# Altium integrated library National Semiconductor Audio.IntLib: 683 symbols (part 14 of 18)
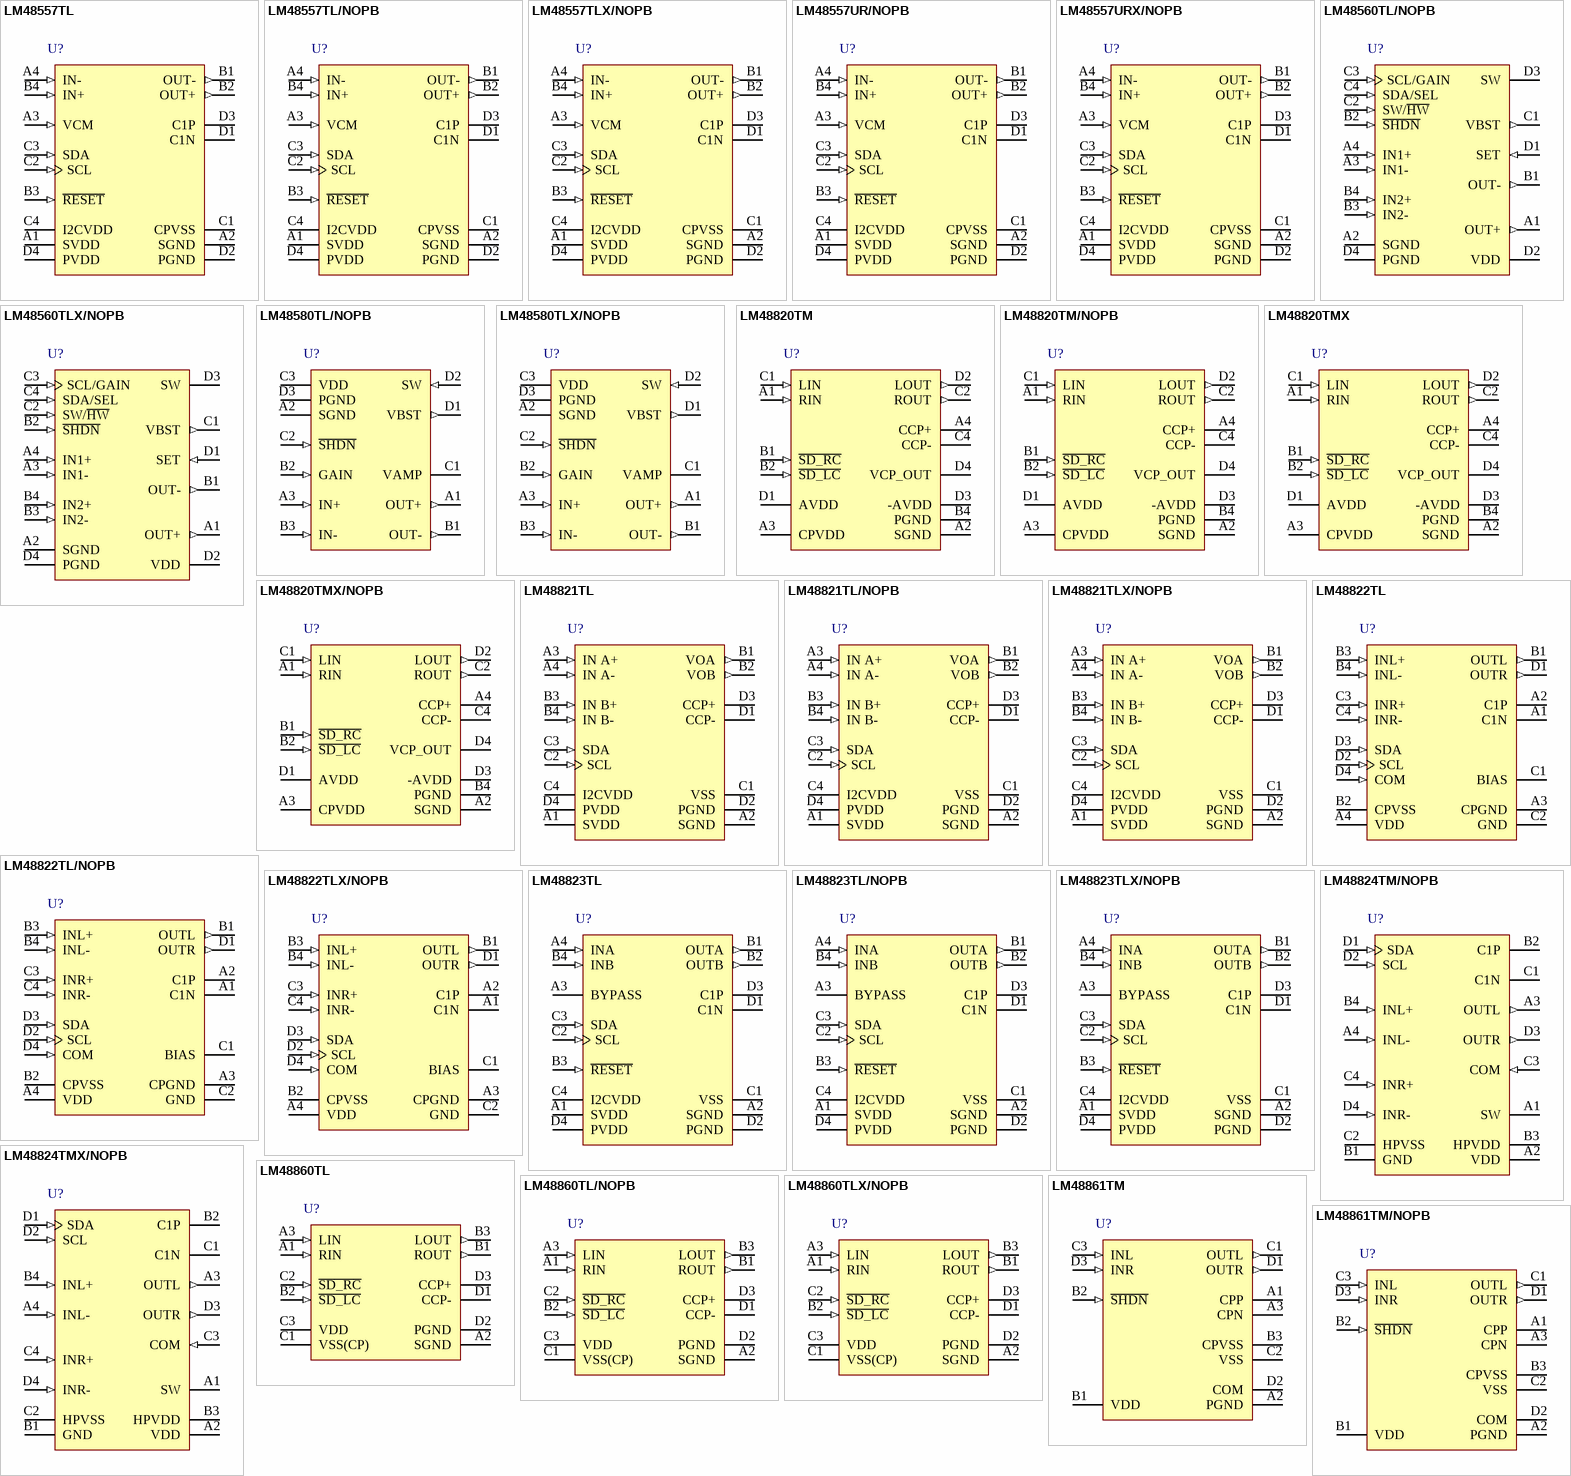
[diagram p39: symbols LM48557TL to LM48861TM/NOPB]

## LM48820TMX/NOPB
designator U?
Ground-Referenced, Ultra Low Noise, Fixed Gain, 95mW Stereo Headphone Amplifier, 14-pin Micro SMD, Pb-Free; PartNumber: LM48820TMX/NOPB; Manufacturer: National Semiconductor; PackageTopMarking: XYTT*I GI7; PowerWise: N; CompType: Audio IC; High-Reliability: Y; DatasheetVersion: Jun-2007; PackageVersion: revA, 2007; PackageReference: TME14AAA; PackageDescription: Thin Micro SMD, Depopulated, 14 Bump, 0.4mm Pitch; RoHS: Y; PinCount: 14; ComponentLink1Description: Manufacturer URL; ComponentLink1URL: http://www.national.com/; ComponentLink2Description: LM48820 Datasheet; ComponentLink2URL: http://www.national.com/ds/LM/LM48820.pdf; ComponentLink3Description: LM48820 Web Page; ComponentLink3URL: http://www.national.com/pf/LM/LM48820.html; ComponentLink4Description: TME14AAA Package Page; ComponentLink4URL: http://www.national.com/packaging/folders/tme14aaa.html
footprint TME14AAA (Micro SMD, 14-Leads, Body 1.62x1.62mm, Pitch 0.4mm, NSC Recommended)
pins: A1 RIN (in), A2 SGND (power), A3 CPVDD (power), A4 CCP+, B1 ~{SD_RC} (in), B2 ~{SD_LC} (in), B4 PGND (power), C1 LIN (in), C2 ROUT (out), C4 CCP-, D1 AVDD (power), D2 LOUT (out), D3 -AVDD (power), D4 VCP_OUT (power)

## LM48821TL
designator U?
Direct Coupled, Ultra Low Noise, 52mW Differential Input Stereo Headphone Amplifier with I2C Volume Control, 16-pin Micro SMD; PartNumber: LM48821TL; Manufacturer: National Semiconductor; PackageTopMarking: XYTT*I G16; PowerWise: N; CompType: Audio IC; High-Reliability: Y; DatasheetVersion: Jun-2007; PackageVersion: revC, Jan-2004; PackageReference: TLA1611A; PackageDescription: Thin Micro SMD, 16 Bump (Large), 0.5mm Pitch; RoHS: Y; PinCount: 16; Code_JEDEC: MO-211-DF; ComponentLink1Description: Manufacturer URL; ComponentLink1URL: http://www.national.com/; ComponentLink2Description: LM48821 Datasheet; ComponentLink2URL: http://www.national.com/ds/LM/LM48821.pdf; ComponentLink3Description: LM48821 Web Page; ComponentLink3URL: http://www.national.com/pf/LM/LM48821.html; ComponentLink4Description: TLA1611A Package Page; ComponentLink4URL: http://www.national.com/packaging/folders/tla1611a.html
footprint TLA1611A (Micro SMD, 16-Leads, Body 1.97x1.97mm, Pitch 0.5mm, NSC Recommended)
pins: A1 SVDD (power), A2 SGND (power), A3 IN A+ (in), A4 IN A- (in), B1 VOA (out), B2 VOB (out), B3 IN B+ (in), B4 IN B- (in), C1 VSS (power), C2 SCL (in), C3 SDA (in), C4 I2CVDD (power), D1 CCP-, D2 PGND (power), D3 CCP+, D4 PVDD (power)

## LM48821TL/NOPB
designator U?
Direct Coupled, Ultra Low Noise, 52mW Differential Input Stereo Headphone Amplifier with I2C Volume Control, 16-pin Micro SMD, Pb-Free; PartNumber: LM48821TL/NOPB; Manufacturer: National Semiconductor; PackageTopMarking: XYTT*I G16; PowerWise: N; CompType: Audio IC; High-Reliability: Y; DatasheetVersion: Jun-2007; PackageVersion: revC, Jan-2004; PackageReference: TLA1611A; PackageDescription: Thin Micro SMD, 16 Bump (Large), 0.5mm Pitch; RoHS: Y; PinCount: 16; Code_JEDEC: MO-211-DF; ComponentLink1Description: Manufacturer URL; ComponentLink1URL: http://www.national.com/; ComponentLink2Description: LM48821 Datasheet; ComponentLink2URL: http://www.national.com/ds/LM/LM48821.pdf; ComponentLink3Description: LM48821 Web Page; ComponentLink3URL: http://www.national.com/pf/LM/LM48821.html; ComponentLink4Description: TLA1611A Package Page; ComponentLink4URL: http://www.national.com/packaging/folders/tla1611a.html
footprint TLA1611A (Micro SMD, 16-Leads, Body 1.97x1.97mm, Pitch 0.5mm, NSC Recommended)
pins: A1 SVDD (power), A2 SGND (power), A3 IN A+ (in), A4 IN A- (in), B1 VOA (out), B2 VOB (out), B3 IN B+ (in), B4 IN B- (in), C1 VSS (power), C2 SCL (in), C3 SDA (in), C4 I2CVDD (power), D1 CCP-, D2 PGND (power), D3 CCP+, D4 PVDD (power)

## LM48821TLX/NOPB
designator U?
Direct Coupled, Ultra Low Noise, 52mW Differential Input Stereo Headphone Amplifier with I2C Volume Control, 16-pin Micro SMD, Pb-Free; PartNumber: LM48821TLX/NOPB; Manufacturer: National Semiconductor; PackageTopMarking: XYTT*I G16; PowerWise: N; CompType: Audio IC; High-Reliability: Y; DatasheetVersion: Jun-2007; PackageVersion: revC, Jan-2004; PackageReference: TLA1611A; PackageDescription: Thin Micro SMD, 16 Bump (Large), 0.5mm Pitch; RoHS: Y; PinCount: 16; Code_JEDEC: MO-211-DF; ComponentLink1Description: Manufacturer URL; ComponentLink1URL: http://www.national.com/; ComponentLink2Description: LM48821 Datasheet; ComponentLink2URL: http://www.national.com/ds/LM/LM48821.pdf; ComponentLink3Description: LM48821 Web Page; ComponentLink3URL: http://www.national.com/pf/LM/LM48821.html; ComponentLink4Description: TLA1611A Package Page; ComponentLink4URL: http://www.national.com/packaging/folders/tla1611a.html
footprint TLA1611A (Micro SMD, 16-Leads, Body 1.97x1.97mm, Pitch 0.5mm, NSC Recommended)
pins: A1 SVDD (power), A2 SGND (power), A3 IN A+ (in), A4 IN A- (in), B1 VOA (out), B2 VOB (out), B3 IN B+ (in), B4 IN B- (in), C1 VSS (power), C2 SCL (in), C3 SDA (in), C4 I2CVDD (power), D1 CCP-, D2 PGND (power), D3 CCP+, D4 PVDD (power)

## LM48822TL
designator U?
Ground-Referenced, Ultra-High PSRR, Ultra Low Noise, 35mW/Channel Stereo Headphone AMplifier with Common Mode Sense, and I2C Volume Control, 16-pin Micro SMD; PartNumber: LM48822TL; Manufacturer: National Semiconductor; PackageTopMarking: XYTT*I GK1; PowerWise: N; CompType: Audio IC; High-Reliability: Y; DatasheetVersion: Jul-2008; PackageVersion: revC, Jan-2004; PackageReference: TLA1611A; PackageDescription: Thin Micro SMD, 16 Bump (Large), 0.5mm Pitch; RoHS: Y; PinCount: 16; Code_JEDEC: MO-211-DF; ComponentLink1Description: Manufacturer URL; ComponentLink1URL: http://www.national.com/; ComponentLink2Description: LM48822 Datasheet; ComponentLink2URL: http://www.national.com/ds/LM/LM48822.pdf; ComponentLink3Description: LM48822 Web Page; ComponentLink3URL: http://www.national.com/pf/LM/LM48822.html; ComponentLink4Description: TLA1611A Package Page; ComponentLink4URL: http://www.national.com/packaging/folders/tla1611a.html
footprint TLA1611A (Micro SMD, 16-Leads, Body 1.97x1.97mm, Pitch 0.5mm, NSC Recommended)
pins: A1 C1N, A2 C1P, A3 CPGND (power), A4 VDD (power), B1 OUTL (out), B2 CPVSS (power), B3 INL+ (in), B4 INL- (in), C1 BIAS (power), C2 GND (power), C3 INR+ (in), C4 INR- (in), D1 OUTR (out), D2 SCL (in), D3 SDA (in), D4 COM (in)

## LM48822TL/NOPB
designator U?
Ground-Referenced, Ultra-High PSRR, Ultra Low Noise, 35mW/Channel Stereo Headphone AMplifier with Common Mode Sense, and I2C Volume Control, 16-pin Micro SMD, Pb-Free; PartNumber: LM48822TL/NOPB; Manufacturer: National Semiconductor; PackageTopMarking: XYTT*I GK1; PowerWise: N; CompType: Audio IC; High-Reliability: Y; DatasheetVersion: Jul-2008; PackageVersion: revC, Jan-2004; PackageReference: TLA1611A; PackageDescription: Thin Micro SMD, 16 Bump (Large), 0.5mm Pitch; RoHS: Y; PinCount: 16; Code_JEDEC: MO-211-DF; ComponentLink1Description: Manufacturer URL; ComponentLink1URL: http://www.national.com/; ComponentLink2Description: LM48822 Datasheet; ComponentLink2URL: http://www.national.com/ds/LM/LM48822.pdf; ComponentLink3Description: LM48822 Web Page; ComponentLink3URL: http://www.national.com/pf/LM/LM48822.html; ComponentLink4Description: TLA1611A Package Page; ComponentLink4URL: http://www.national.com/packaging/folders/tla1611a.html
footprint TLA1611A (Micro SMD, 16-Leads, Body 1.97x1.97mm, Pitch 0.5mm, NSC Recommended)
pins: A1 C1N, A2 C1P, A3 CPGND (power), A4 VDD (power), B1 OUTL (out), B2 CPVSS (power), B3 INL+ (in), B4 INL- (in), C1 BIAS (power), C2 GND (power), C3 INR+ (in), C4 INR- (in), D1 OUTR (out), D2 SCL (in), D3 SDA (in), D4 COM (in)

## LM48822TLX/NOPB
designator U?
Ground-Referenced, Ultra-High PSRR, Ultra Low Noise, 35mW/Channel Stereo Headphone AMplifier with Common Mode Sense, and I2C Volume Control, 16-pin Micro SMD, Pb-Free; PartNumber: LM48822TLX/NOPB; Manufacturer: National Semiconductor; PackageTopMarking: XYTT*I GK1; PowerWise: N; CompType: Audio IC; High-Reliability: Y; DatasheetVersion: Jul-2008; PackageVersion: revC, Jan-2004; PackageReference: TLA1611A; PackageDescription: Thin Micro SMD, 16 Bump (Large), 0.5mm Pitch; RoHS: Y; PinCount: 16; Code_JEDEC: MO-211-DF; ComponentLink1Description: Manufacturer URL; ComponentLink1URL: http://www.national.com/; ComponentLink2Description: LM48822 Datasheet; ComponentLink2URL: http://www.national.com/ds/LM/LM48822.pdf; ComponentLink3Description: LM48822 Web Page; ComponentLink3URL: http://www.national.com/pf/LM/LM48822.html; ComponentLink4Description: TLA1611A Package Page; ComponentLink4URL: http://www.national.com/packaging/folders/tla1611a.html
footprint TLA1611A (Micro SMD, 16-Leads, Body 1.97x1.97mm, Pitch 0.5mm, NSC Recommended)
pins: A1 C1N, A2 C1P, A3 CPGND (power), A4 VDD (power), B1 OUTL (out), B2 CPVSS (power), B3 INL+ (in), B4 INL- (in), C1 BIAS (power), C2 GND (power), C3 INR+ (in), C4 INR- (in), D1 OUTR (out), D2 SCL (in), D3 SDA (in), D4 COM (in)

## LM48823TL
designator U?
Mono, Bridge-Tied Load, Ceramic Speaker Driver with I2C Volume Control and Reset, 16-pin Micro SMD; PartNumber: LM48823TL; Manufacturer: National Semiconductor; PackageTopMarking: XYTT*I GK6; PowerWise: N; CompType: Audio IC; High-Reliability: Y; DatasheetVersion: Jul-2008; PackageVersion: revC, Jan-2004; PackageReference: TLA1611A; PackageDescription: Thin Micro SMD, 16 Bump (Large), 0.5mm Pitch; RoHS: N; PinCount: 16; Code_JEDEC: MO-211-DF; ComponentLink1Description: Manufacturer URL; ComponentLink1URL: http://www.national.com/; ComponentLink2Description: LM48823 Datasheet; ComponentLink2URL: http://www.national.com/ds/LM/LM48823.pdf; ComponentLink3Description: LM48823 Web Page; ComponentLink3URL: http://www.national.com/pf/LM/LM48823.html; ComponentLink4Description: TLA1611A Package Page; ComponentLink4URL: http://www.national.com/packaging/folders/tla1611a.html
footprint TLA1611A (Micro SMD, 16-Leads, Body 1.97x1.97mm, Pitch 0.5mm, NSC Recommended)
pins: A1 SVDD (power), A2 SGND (power), A3 BYPASS, A4 INA (in), B1 OUTA (out), B2 OUTB (out), B3 ~{RESET} (in), B4 INB (in), C1 VSS (power), C2 SCL (in), C3 SDA (in), C4 I2CVDD (power), D1 C1N, D2 PGND (power), D3 C1P, D4 PVDD (power)

## LM48823TL/NOPB
designator U?
Mono, Bridge-Tied Load, Ceramic Speaker Driver with I2C Volume Control and Reset, 16-pin Micro SMD, Pb-Free; PartNumber: LM48823TL/NOPB; Manufacturer: National Semiconductor; PackageTopMarking: XYTT*I GK6; PowerWise: N; CompType: Audio IC; High-Reliability: Y; DatasheetVersion: Jul-2008; PackageVersion: revC, Jan-2004; PackageReference: TLA1611A; PackageDescription: Thin Micro SMD, 16 Bump (Large), 0.5mm Pitch; RoHS: Y; PinCount: 16; Code_JEDEC: MO-211-DF; ComponentLink1Description: Manufacturer URL; ComponentLink1URL: http://www.national.com/; ComponentLink2Description: LM48823 Datasheet; ComponentLink2URL: http://www.national.com/ds/LM/LM48823.pdf; ComponentLink3Description: LM48823 Web Page; ComponentLink3URL: http://www.national.com/pf/LM/LM48823.html; ComponentLink4Description: TLA1611A Package Page; ComponentLink4URL: http://www.national.com/packaging/folders/tla1611a.html
footprint TLA1611A (Micro SMD, 16-Leads, Body 1.97x1.97mm, Pitch 0.5mm, NSC Recommended)
pins: A1 SVDD (power), A2 SGND (power), A3 BYPASS, A4 INA (in), B1 OUTA (out), B2 OUTB (out), B3 ~{RESET} (in), B4 INB (in), C1 VSS (power), C2 SCL (in), C3 SDA (in), C4 I2CVDD (power), D1 C1N, D2 PGND (power), D3 C1P, D4 PVDD (power)

## LM48823TLX/NOPB
designator U?
Mono, Bridge-Tied Load, Ceramic Speaker Driver with I2C Volume Control and Reset, 16-pin Micro SMD, Pb-Free; PartNumber: LM48823TLX/NOPB; Manufacturer: National Semiconductor; PackageTopMarking: XYTT*I GK6; PowerWise: N; CompType: Audio IC; High-Reliability: Y; DatasheetVersion: Jul-2008; PackageVersion: revC, Jan-2004; PackageReference: TLA1611A; PackageDescription: Thin Micro SMD, 16 Bump (Large), 0.5mm Pitch; RoHS: Y; PinCount: 16; Code_JEDEC: MO-211-DF; ComponentLink1Description: Manufacturer URL; ComponentLink1URL: http://www.national.com/; ComponentLink2Description: LM48823 Datasheet; ComponentLink2URL: http://www.national.com/ds/LM/LM48823.pdf; ComponentLink3Description: LM48823 Web Page; ComponentLink3URL: http://www.national.com/pf/LM/LM48823.html; ComponentLink4Description: TLA1611A Package Page; ComponentLink4URL: http://www.national.com/packaging/folders/tla1611a.html
footprint TLA1611A (Micro SMD, 16-Leads, Body 1.97x1.97mm, Pitch 0.5mm, NSC Recommended)
pins: A1 SVDD (power), A2 SGND (power), A3 BYPASS, A4 INA (in), B1 OUTA (out), B2 OUTB (out), B3 ~{RESET} (in), B4 INB (in), C1 VSS (power), C2 SCL (in), C3 SDA (in), C4 I2CVDD (power), D1 C1N, D2 PGND (power), D3 C1P, D4 PVDD (power)

## LM48824TM/NOPB
designator U?
Class G Headphone Amplifier with I2C Volume Control, 16-pin Micro SMD, Pb-Free; PartNumber: LM48824TM/NOPB; Manufacturer: National Semiconductor; PackageTopMarking: XYTT*I GL6; PowerWise: N; CompType: Audio IC; High-Reliability: Y; DatasheetVersion: Aug-2009; PackageVersion: revA, 2009; PackageReference: TMD16DDA; PackageDescription: Thin Micro SMD, 16 Bump, 0.4mm Pitch; RoHS: Y; PinCount: 16; ComponentLink1Description: Manufacturer URL; ComponentLink1URL: http://www.national.com/; ComponentLink2Description: LM48824 Datasheet; ComponentLink2URL: http://www.national.com/ds/LM/LM48824.pdf; ComponentLink3Description: LM48824 Web Page; ComponentLink3URL: http://www.national.com/pf/LM/LM48824.html; ComponentLink4Description: TMD16DDA Package Page; ComponentLink4URL: http://www.national.com/packaging/folders/tmd16dda.html
footprint TMD16DDA (Micro SMD, 16-Leads, Body 1.7x1.7mm, Pitch 0.4mm, NSC Recommended)
pins: A1 SW, A2 VDD (power), A3 OUTL (out), A4 INL- (in), B1 GND (power), B2 C1P, B3 HPVDD (power), B4 INL+ (in), C1 C1N, C2 HPVSS, C3 COM (in), C4 INR+ (in), D1 SDA (in), D2 SCL (in), D3 OUTR (out), D4 INR- (in)

## LM48824TMX/NOPB
designator U?
Class G Headphone Amplifier with I2C Volume Control, 16-pin Micro SMD, Pb-Free; PartNumber: LM48824TMX/NOPB; Manufacturer: National Semiconductor; PackageTopMarking: XYTT*I GL6; PowerWise: N; CompType: Audio IC; High-Reliability: Y; DatasheetVersion: Aug-2009; PackageVersion: revA, 2009; PackageReference: TMD16DDA; PackageDescription: Thin Micro SMD, 16 Bump, 0.4mm Pitch; RoHS: Y; PinCount: 16; ComponentLink1Description: Manufacturer URL; ComponentLink1URL: http://www.national.com/; ComponentLink2Description: LM48824 Datasheet; ComponentLink2URL: http://www.national.com/ds/LM/LM48824.pdf; ComponentLink3Description: LM48824 Web Page; ComponentLink3URL: http://www.national.com/pf/LM/LM48824.html; ComponentLink4Description: TMD16DDA Package Page; ComponentLink4URL: http://www.national.com/packaging/folders/tmd16dda.html
footprint TMD16DDA (Micro SMD, 16-Leads, Body 1.7x1.7mm, Pitch 0.4mm, NSC Recommended)
pins: A1 SW, A2 VDD (power), A3 OUTL (out), A4 INL- (in), B1 GND (power), B2 C1P, B3 HPVDD (power), B4 INL+ (in), C1 C1N, C2 HPVSS, C3 COM (in), C4 INR+ (in), D1 SDA (in), D2 SCL (in), D3 OUTR (out), D4 INR- (in)

## LM48860TL
designator U?
Ground-Referenced, Ultra Low Noise, Fixed Gain Stereo Headphone Amplifier, 12-pin Micro SMD; PartNumber: LM48860TL; Manufacturer: National Semiconductor; PackageTopMarking: XYTT*I GJ7; PowerWise: N; CompType: Audio IC; High-Reliability: Y; DatasheetVersion: Oct-2008; PackageVersion: revC, Jan-2004; PackageReference: TLA12Z1A; PackageDescription: Thin Micro SMD, 12 Bump (Large), Area Array, 0.5mm Pitch; RoHS: Y; PinCount: 12; Code_JEDEC: MO-211-DE; ComponentLink1Description: Manufacturer URL; ComponentLink1URL: http://www.national.com/; ComponentLink2Description: LM48860 Datasheet; ComponentLink2URL: http://www.national.com/ds/LM/LM48860.pdf; ComponentLink3Description: LM48860 Web Page; ComponentLink3URL: http://www.national.com/pf/LM/LM48860.html; ComponentLink4Description: TLA12Z1A Package Page; ComponentLink4URL: http://www.national.com/packaging/folders/tla12z1a.html
footprint TLA12Z1A (Micro SMD, 12-Leads, Body 1.97x1.47mm, Pitch 0.5mm, NSC Recommended)
pins: A1 RIN (in), A2 SGND (power), A3 LIN (in), B1 ROUT (out), B2 ~{SD_LC} (in), B3 LOUT (out), C1 VSS(CP) (power), C2 ~{SD_RC} (in), C3 VDD (power), D1 CCP-, D2 PGND (power), D3 CCP+

## LM48860TL/NOPB
designator U?
Ground-Referenced, Ultra Low Noise, Fixed Gain Stereo Headphone Amplifier, 12-pin Micro SMD, Pb-Free; PartNumber: LM48860TL/NOPB; Manufacturer: National Semiconductor; PackageTopMarking: XYTT*I GJ7; PowerWise: N; CompType: Audio IC; High-Reliability: Y; DatasheetVersion: Oct-2008; PackageVersion: revC, Jan-2004; PackageReference: TLA12Z1A; PackageDescription: Thin Micro SMD, 12 Bump (Large), Area Array, 0.5mm Pitch; RoHS: Y; PinCount: 12; Code_JEDEC: MO-211-DE; ComponentLink1Description: Manufacturer URL; ComponentLink1URL: http://www.national.com/; ComponentLink2Description: LM48860 Datasheet; ComponentLink2URL: http://www.national.com/ds/LM/LM48860.pdf; ComponentLink3Description: LM48860 Web Page; ComponentLink3URL: http://www.national.com/pf/LM/LM48860.html; ComponentLink4Description: TLA12Z1A Package Page; ComponentLink4URL: http://www.national.com/packaging/folders/tla12z1a.html
footprint TLA12Z1A (Micro SMD, 12-Leads, Body 1.97x1.47mm, Pitch 0.5mm, NSC Recommended)
pins: A1 RIN (in), A2 SGND (power), A3 LIN (in), B1 ROUT (out), B2 ~{SD_LC} (in), B3 LOUT (out), C1 VSS(CP) (power), C2 ~{SD_RC} (in), C3 VDD (power), D1 CCP-, D2 PGND (power), D3 CCP+

## LM48860TLX/NOPB
designator U?
Ground-Referenced, Ultra Low Noise, Fixed Gain Stereo Headphone Amplifier, 12-pin Micro SMD, Pb-Free; PartNumber: LM48860TLX/NOPB; Manufacturer: National Semiconductor; PackageTopMarking: XYTT*I GJ7; PowerWise: N; CompType: Audio IC; High-Reliability: Y; DatasheetVersion: Oct-2008; PackageVersion: revC, Jan-2004; PackageReference: TLA12Z1A; PackageDescription: Thin Micro SMD, 12 Bump (Large), Area Array, 0.5mm Pitch; RoHS: Y; PinCount: 12; Code_JEDEC: MO-211-DE; ComponentLink1Description: Manufacturer URL; ComponentLink1URL: http://www.national.com/; ComponentLink2Description: LM48860 Datasheet; ComponentLink2URL: http://www.national.com/ds/LM/LM48860.pdf; ComponentLink3Description: LM48860 Web Page; ComponentLink3URL: http://www.national.com/pf/LM/LM48860.html; ComponentLink4Description: TLA12Z1A Package Page; ComponentLink4URL: http://www.national.com/packaging/folders/tla12z1a.html
footprint TLA12Z1A (Micro SMD, 12-Leads, Body 1.97x1.47mm, Pitch 0.5mm, NSC Recommended)
pins: A1 RIN (in), A2 SGND (power), A3 LIN (in), B1 ROUT (out), B2 ~{SD_LC} (in), B3 LOUT (out), C1 VSS(CP) (power), C2 ~{SD_RC} (in), C3 VDD (power), D1 CCP-, D2 PGND (power), D3 CCP+

## LM48861TM
designator U?
PowerWise Ground-Referenced, Ultra Low Noise, Stereo Headphone Amplifier, 12-pin Micro SMD; PartNumber: LM48861TM; Manufacturer: National Semiconductor; PackageTopMarking: XVG*I K3; PowerWise: Y; CompType: Audio IC; DatasheetVersion: Jun-2008; PackageVersion: revA, 2008; PackageReference: TMD12AAA; PackageDescription: Thin Micro SMD, 12 Bump, 0.4mm Pitch; RoHS: Y; PinCount: 12; High-Reliability: Y; ComponentLink1Description: Manufacturer URL; ComponentLink1URL: http://www.national.com/; ComponentLink2Description: LM48861 Datasheet; ComponentLink2URL: http://www.national.com/ds/LM/LM48861.pdf; ComponentLink3Description: LM48861 Web Page; ComponentLink3URL: http://www.national.com/pf/LM/LM48861.html
footprint TMD12AAA (Micro SMD, 12-Leads, Body 1.62x1.22mm, Pitch 0.4mm, NSC Recommended)
pins: A1 CPP, A2 PGND (power), A3 CPN, B1 VDD (power), B2 ~{SHDN} (in), B3 CPVSS (power), C1 OUTL (out), C2 VSS (power), C3 INL (in), D1 OUTR (out), D2 COM (power), D3 INR (in)

## LM48861TM/NOPB
designator U?
PowerWise Ground-Referenced, Ultra Low Noise, Stereo Headphone Amplifier, 12-pin Micro SMD, Pb-Free; PartNumber: LM48861TM/NOPB; Manufacturer: National Semiconductor; PackageTopMarking: XVG*I K3; PowerWise: Y; CompType: Audio IC; DatasheetVersion: Jun-2008; PackageVersion: revA, 2008; PackageReference: TMD12AAA; PackageDescription: Thin Micro SMD, 12 Bump, 0.4mm Pitch; RoHS: Y; PinCount: 12; High-Reliability: Y; ComponentLink1Description: Manufacturer URL; ComponentLink1URL: http://www.national.com/; ComponentLink2Description: LM48861 Datasheet; ComponentLink2URL: http://www.national.com/ds/LM/LM48861.pdf; ComponentLink3Description: LM48861 Web Page; ComponentLink3URL: http://www.national.com/pf/LM/LM48861.html; ComponentLink4Description: TMD12AAA Package Page; ComponentLink4URL: http://www.national.com/packaging/folders/tmd12aaa.html
footprint TMD12AAA (Micro SMD, 12-Leads, Body 1.62x1.22mm, Pitch 0.4mm, NSC Recommended)
pins: A1 CPP, A2 PGND (power), A3 CPN, B1 VDD (power), B2 ~{SHDN} (in), B3 CPVSS (power), C1 OUTL (out), C2 VSS (power), C3 INL (in), D1 OUTR (out), D2 COM (power), D3 INR (in)

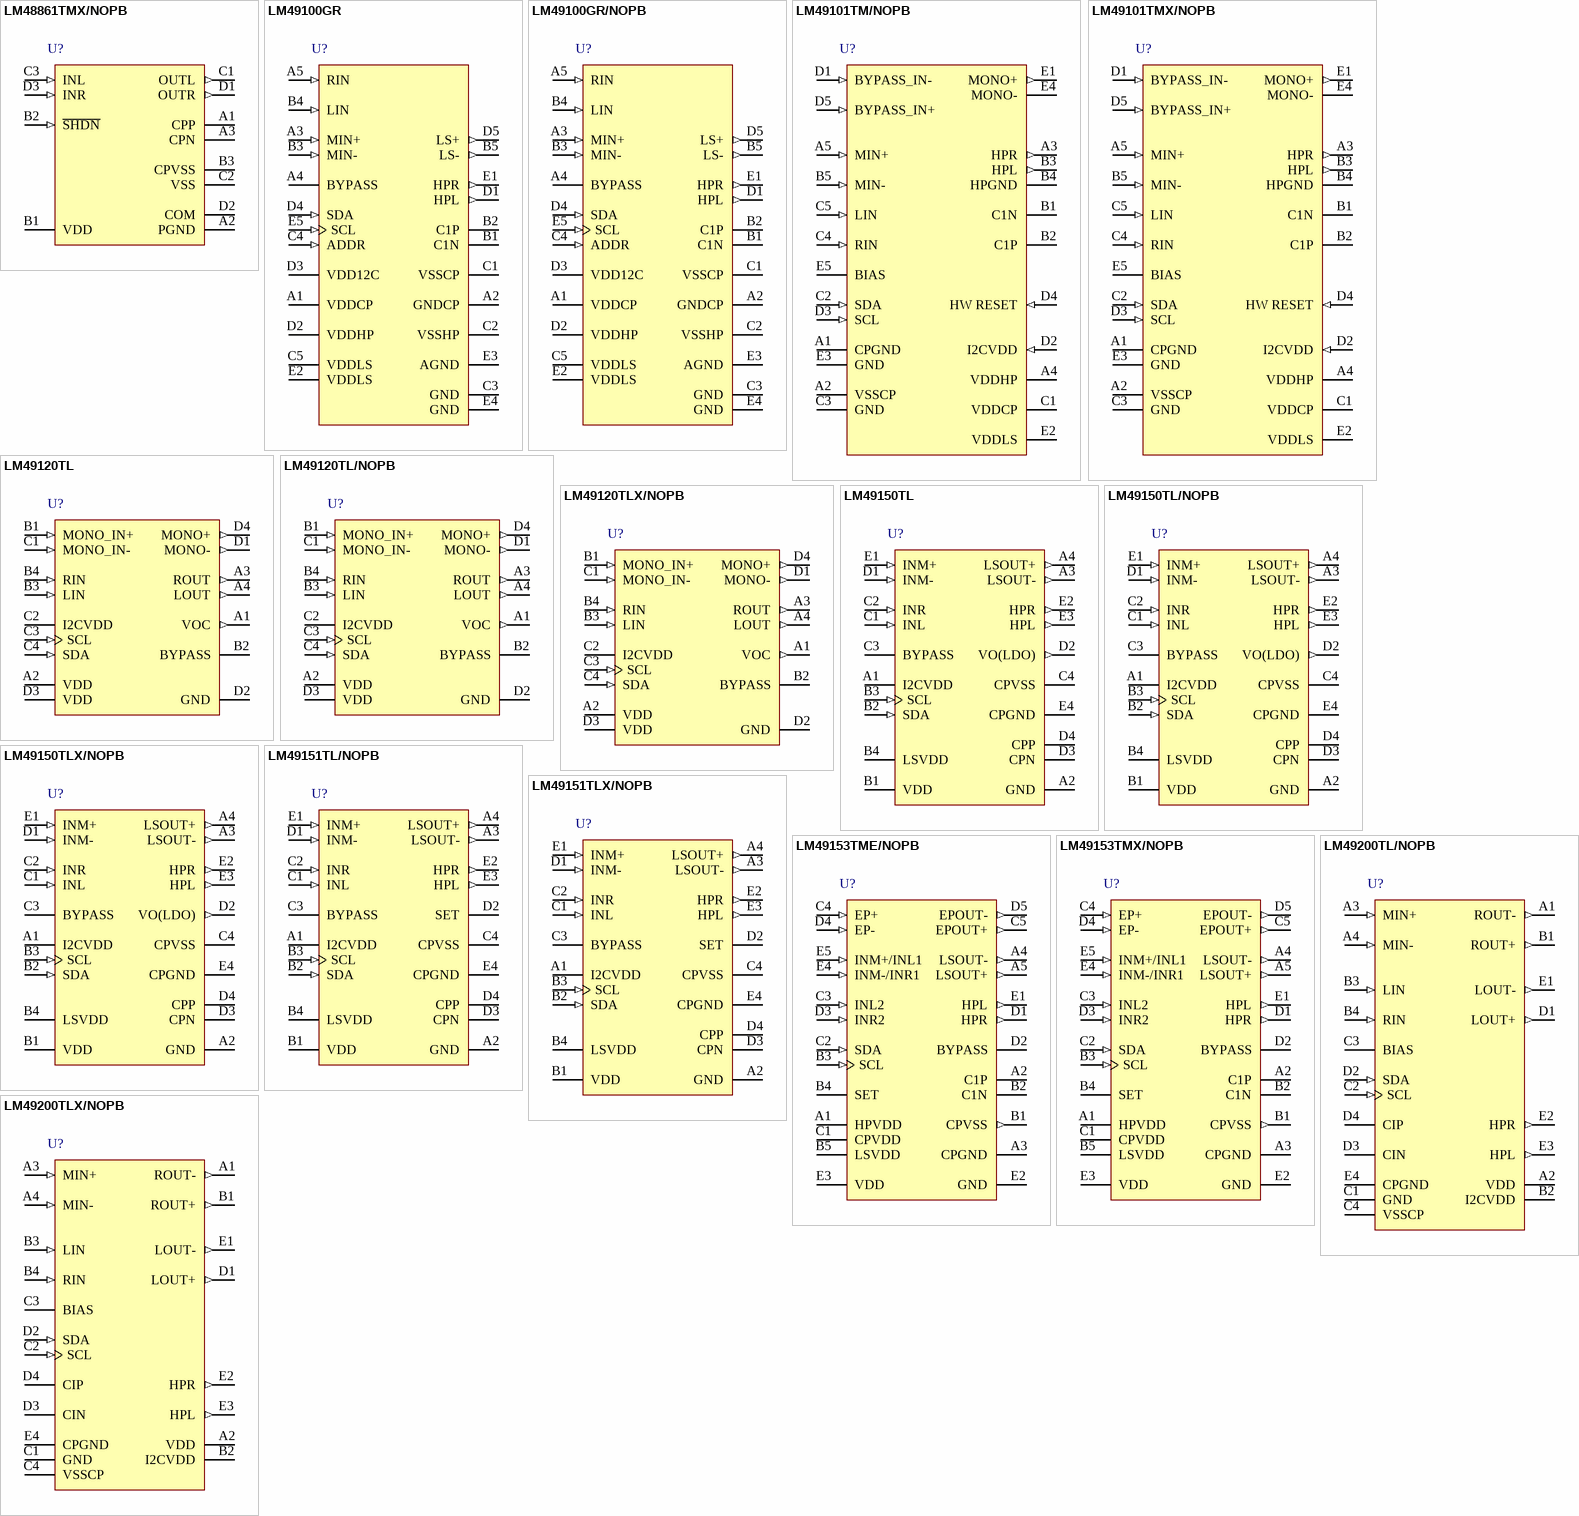
[diagram p20: symbols LM48861TMX/NOPB to LM49200TLX/NOPB]

## LM48861TMX/NOPB
designator U?
PowerWise Ground-Referenced, Ultra Low Noise, Stereo Headphone Amplifier, 12-pin Micro SMD, Pb-Free; PartNumber: LM48861TMX/NOPB; Manufacturer: National Semiconductor; PackageTopMarking: XVG*I K3; PowerWise: Y; CompType: Audio IC; DatasheetVersion: Jun-2008; PackageVersion: revA, 2008; PackageReference: TMD12AAA; PackageDescription: Thin Micro SMD, 12 Bump, 0.4mm Pitch; RoHS: Y; PinCount: 12; High-Reliability: Y; ComponentLink1Description: Manufacturer URL; ComponentLink1URL: http://www.national.com/; ComponentLink2Description: LM48861 Datasheet; ComponentLink2URL: http://www.national.com/ds/LM/LM48861.pdf; ComponentLink3Description: LM48861 Web Page; ComponentLink3URL: http://www.national.com/pf/LM/LM48861.html; ComponentLink4Description: TMD12AAA Package Page; ComponentLink4URL: http://www.national.com/packaging/folders/tmd12aaa.html
footprint TMD12AAA (Micro SMD, 12-Leads, Body 1.62x1.22mm, Pitch 0.4mm, NSC Recommended)
pins: A1 CPP, A2 PGND (power), A3 CPN, B1 VDD (power), B2 ~{SHDN} (in), B3 CPVSS (power), C1 OUTL (out), C2 VSS (power), C3 INL (in), D1 OUTR (out), D2 COM (power), D3 INR (in)

## LM49100GR
designator U?
Mono Class AB Audio Sub-System with a True-Ground Headphone Amplifier, 25-pin Micro-Array; PartNumber: LM49100GR; Manufacturer: National Semiconductor; PackageTopMarking: XYTT*GC9; PowerWise: N; CompType: Audio IC; High-Reliability: Y; DatasheetVersion: Sep-2007; PackageVersion: revA, Mar-2004; PackageReference: GRA25A; PackageDescription: Micro-Array, 3x3x1mm Body, 25 Ball, 0.5mm Pitch; RoHS: Y; PinCount: 25; ComponentLink1Description: Manufacturer URL; ComponentLink1URL: http://www.national.com/; ComponentLink2Description: LM49100 Datasheet; ComponentLink2URL: http://www.national.com/ds/LM/LM49100.pdf; ComponentLink3Description: LM49100 Web Page; ComponentLink3URL: http://www.national.com/pf/LM/LM49100.html; ComponentLink4Description: GRA25A Package Page; ComponentLink4URL: http://www.national.com/packaging/folders/gra25a.html
footprint GRA25A (BGA, 25-Leads, Body 3x3mm, Pitch 0.5mm, NSC Recommended)
pins: A1 VDDCP (power), A2 GNDCP (power), A3 MIN+ (in), A4 BYPASS, A5 RIN (in), B1 C1N, B2 C1P, B3 MIN- (in), B4 LIN (in), B5 LS- (out), C1 VSSCP (power), C2 VSSHP (power), C3 GND (power), C4 ADDR (in), C5 VDDLS (power), D1 HPL (out), D2 VDDHP (power), D3 VDD12C (power), D4 SDA (in), D5 LS+ (out), E1 HPR (out), E2 VDDLS (power), E3 AGND (power), E4 GND (power), E5 SCL (in)

## LM49100GR/NOPB
designator U?
Mono Class AB Audio Sub-System with a True-Ground Headphone Amplifier, 25-pin Micro-Array, Pb-Free; PartNumber: LM49100GR/NOPB; Manufacturer: National Semiconductor; PackageTopMarking: XYTT*GC9; PowerWise: N; CompType: Audio IC; High-Reliability: Y; DatasheetVersion: Sep-2007; PackageVersion: revA, Mar-2004; PackageReference: GRA25A; PackageDescription: Micro-Array, 3x3x1mm Body, 25 Ball, 0.5mm Pitch; RoHS: Y; PinCount: 25; ComponentLink1Description: Manufacturer URL; ComponentLink1URL: http://www.national.com/; ComponentLink2Description: LM49100 Datasheet; ComponentLink2URL: http://www.national.com/ds/LM/LM49100.pdf; ComponentLink3Description: LM49100 Web Page; ComponentLink3URL: http://www.national.com/pf/LM/LM49100.html; ComponentLink4Description: GRA25A Package Page; ComponentLink4URL: http://www.national.com/packaging/folders/gra25a.html
footprint GRA25A (BGA, 25-Leads, Body 3x3mm, Pitch 0.5mm, NSC Recommended)
pins: A1 VDDCP (power), A2 GNDCP (power), A3 MIN+ (in), A4 BYPASS, A5 RIN (in), B1 C1N, B2 C1P, B3 MIN- (in), B4 LIN (in), B5 LS- (out), C1 VSSCP (power), C2 VSSHP (power), C3 GND (power), C4 ADDR (in), C5 VDDLS (power), D1 HPL (out), D2 VDDHP (power), D3 VDD12C (power), D4 SDA (in), D5 LS+ (out), E1 HPR (out), E2 VDDLS (power), E3 AGND (power), E4 GND (power), E5 SCL (in)

## LM49101TM/NOPB
designator U?
Mono Class AB Audio Subsystem with a True Ground Headphone Amplifier and Earpiece Switch, 25-pin Micro SMD, Pb-Free; PartNumber: LM49101TM/NOPB; Manufacturer: National Semiconductor; PackageTopMarking: XYTT*I GL4; PowerWise: Y; CompType: Audio IC; DatasheetVersion: Mar-2009; PackageVersion: revC, 2009; PackageReference: TMD25BCA; PackageDescription: Thin Micro SMD, 25 Bump, 0.4mm Pitch; RoHS: Y; PinCount: 25; High-Reliability: Y; ComponentLink1Description: Manufacturer URL; ComponentLink1URL: http://www.national.com/; ComponentLink2Description: LM49101 Datasheet; ComponentLink2URL: http://www.national.com/ds/LM/LM49101.pdf; ComponentLink3Description: LM49101 Web Page; ComponentLink3URL: http://www.national.com/pf/LM/LM49101.html; ComponentLink4Description: TMD25BCA Package Page; ComponentLink4URL: http://www.national.com/packaging/folders/tmd25bca.html
footprint TMD25BCA (Micro SMD, 25-Leads, Body 2.07x2.04mm, Pitch 0.4mm, NSC Recommended)
pins: A1 CPGND (power), A2 VSSCP (power), A3 HPR (out), A4 VDDHP (power), A5 MIN+ (in), B1 C1N, B2 C1P, B3 HPL (out), B4 HPGND (power), B5 MIN- (in), C1 VDDCP (power), C2 SDA (in), C3 GND (power), C4 RIN (in), C5 LIN (in), D1 BYPASS_IN- (in), D2 I2CVDD (in), D3 SCL (in), D4 HW RESET (in), D5 BYPASS_IN+ (in), E1 MONO+ (out), E2 VDDLS (power), E3 GND (power), E4 MONO-, E5 BIAS

## LM49101TMX/NOPB
designator U?
Mono Class AB Audio Subsystem with a True Ground Headphone Amplifier and Earpiece Switch, 25-pin Micro SMD, Pb-Free; PartNumber: LM49101TMX/NOPB; Manufacturer: National Semiconductor; PackageTopMarking: XYTT*I GL4; PowerWise: Y; CompType: Audio IC; DatasheetVersion: Mar-2009; PackageVersion: revC, 2009; PackageReference: TMD25BCA; PackageDescription: Thin Micro SMD, 25 Bump, 0.4mm Pitch; RoHS: Y; PinCount: 25; High-Reliability: Y; ComponentLink1Description: Manufacturer URL; ComponentLink1URL: http://www.national.com/; ComponentLink2Description: LM49101 Datasheet; ComponentLink2URL: http://www.national.com/ds/LM/LM49101.pdf; ComponentLink3Description: LM49101 Web Page; ComponentLink3URL: http://www.national.com/pf/LM/LM49101.html; ComponentLink4Description: TMD25BCA Package Page; ComponentLink4URL: http://www.national.com/packaging/folders/tmd25bca.html
footprint TMD25BCA (Micro SMD, 25-Leads, Body 2.07x2.04mm, Pitch 0.4mm, NSC Recommended)
pins: A1 CPGND (power), A2 VSSCP (power), A3 HPR (out), A4 VDDHP (power), A5 MIN+ (in), B1 C1N, B2 C1P, B3 HPL (out), B4 HPGND (power), B5 MIN- (in), C1 VDDCP (power), C2 SDA (in), C3 GND (power), C4 RIN (in), C5 LIN (in), D1 BYPASS_IN- (in), D2 I2CVDD (in), D3 SCL (in), D4 HW RESET (in), D5 BYPASS_IN+ (in), E1 MONO+ (out), E2 VDDLS (power), E3 GND (power), E4 MONO-, E5 BIAS

## LM49120TL
designator U?
Audio Sub-System with Mono Class AB Loudspeaker Amplifier and Stereo OCL/SE Headphone Amplifier, 16-pin Micro SMD; PartNumber: LM49120TL; Manufacturer: National Semiconductor; PackageTopMarking: XYTT*I GK2; PowerWise: N; CompType: Audio IC; High-Reliability: Y; DatasheetVersion: Jul-2008; PackageVersion: revC, Jan-2004; PackageReference: TLA1611A; PackageDescription: Thin Micro SMD, 16 Bump (Large), 0.5mm Pitch; RoHS: Y; PinCount: 16; Code_JEDEC: MO-211-DF; ComponentLink1Description: Manufacturer URL; ComponentLink1URL: http://www.national.com/; ComponentLink2Description: LM49120 Datasheet; ComponentLink2URL: http://www.national.com/ds/LM/LM49120.pdf; ComponentLink3Description: LM49120 Web Page; ComponentLink3URL: http://www.national.com/pf/LM/LM49120.html; ComponentLink4Description: TLA1611A Package Page; ComponentLink4URL: http://www.national.com/packaging/folders/tla1611a.html
footprint TLA1611A (Micro SMD, 16-Leads, Body 1.97x1.97mm, Pitch 0.5mm, NSC Recommended)
pins: A1 VOC (out), A2 VDD (power), A3 ROUT (out), A4 LOUT (out), B1 MONO_IN+ (in), B2 BYPASS, B3 LIN (in), B4 RIN (in), C1 MONO_IN- (in), C2 I2CVDD (power), C3 SCL (in), C4 SDA (in), D1 MONO- (out), D2 GND (power), D3 VDD (power), D4 MONO+ (out)

## LM49120TL/NOPB
designator U?
Audio Sub-System with Mono Class AB Loudspeaker Amplifier and Stereo OCL/SE Headphone Amplifier, 16-pin Micro SMD, Pb-Free; PartNumber: LM49120TL/NOPB; Manufacturer: National Semiconductor; PackageTopMarking: XYTT*I GK2; PowerWise: N; CompType: Audio IC; High-Reliability: Y; DatasheetVersion: Jul-2008; PackageVersion: revC, Jan-2004; PackageReference: TLA1611A; PackageDescription: Thin Micro SMD, 16 Bump (Large), 0.5mm Pitch; RoHS: Y; PinCount: 16; Code_JEDEC: MO-211-DF; ComponentLink1Description: Manufacturer URL; ComponentLink1URL: http://www.national.com/; ComponentLink2Description: LM49120 Datasheet; ComponentLink2URL: http://www.national.com/ds/LM/LM49120.pdf; ComponentLink3Description: LM49120 Web Page; ComponentLink3URL: http://www.national.com/pf/LM/LM49120.html; ComponentLink4Description: TLA1611A Package Page; ComponentLink4URL: http://www.national.com/packaging/folders/tla1611a.html
footprint TLA1611A (Micro SMD, 16-Leads, Body 1.97x1.97mm, Pitch 0.5mm, NSC Recommended)
pins: A1 VOC (out), A2 VDD (power), A3 ROUT (out), A4 LOUT (out), B1 MONO_IN+ (in), B2 BYPASS, B3 LIN (in), B4 RIN (in), C1 MONO_IN- (in), C2 I2CVDD (power), C3 SCL (in), C4 SDA (in), D1 MONO- (out), D2 GND (power), D3 VDD (power), D4 MONO+ (out)

## LM49120TLX/NOPB
designator U?
Audio Sub-System with Mono Class AB Loudspeaker Amplifier and Stereo OCL/SE Headphone Amplifier, 16-pin Micro SMD, Pb-Free; PartNumber: LM49120TLX/NOPB; Manufacturer: National Semiconductor; PackageTopMarking: XYTT*I GK2; PowerWise: N; CompType: Audio IC; High-Reliability: Y; DatasheetVersion: Jul-2008; PackageVersion: revC, Jan-2004; PackageReference: TLA1611A; PackageDescription: Thin Micro SMD, 16 Bump (Large), 0.5mm Pitch; RoHS: Y; PinCount: 16; Code_JEDEC: MO-211-DF; ComponentLink1Description: Manufacturer URL; ComponentLink1URL: http://www.national.com/; ComponentLink2Description: LM49120 Datasheet; ComponentLink2URL: http://www.national.com/ds/LM/LM49120.pdf; ComponentLink3Description: LM49120 Web Page; ComponentLink3URL: http://www.national.com/pf/LM/LM49120.html; ComponentLink4Description: TLA1611A Package Page; ComponentLink4URL: http://www.national.com/packaging/folders/tla1611a.html
footprint TLA1611A (Micro SMD, 16-Leads, Body 1.97x1.97mm, Pitch 0.5mm, NSC Recommended)
pins: A1 VOC (out), A2 VDD (power), A3 ROUT (out), A4 LOUT (out), B1 MONO_IN+ (in), B2 BYPASS, B3 LIN (in), B4 RIN (in), C1 MONO_IN- (in), C2 I2CVDD (power), C3 SCL (in), C4 SDA (in), D1 MONO- (out), D2 GND (power), D3 VDD (power), D4 MONO+ (out)

## LM49150TL
designator U?
Mono Class D Audio Subsystem with Earpiece Driver and Stereo Ground Referenced Headphone Amplifiers, 20-pin Micro SMD; PartNumber: LM49150TL; Manufacturer: National Semiconductor; PackageTopMarking: XYTT*I GK7; PowerWise: N; CompType: Audio IC; High-Reliability: Y; DatasheetVersion: Mar-2009; PackageVersion: revC, Jan-2004; PackageReference: TLA20KGA; PackageDescription: Thin Micro SMD, 20 Bump (Large), 0.5mm Pitch; RoHS: Y; PinCount: 20; Code_JEDEC: MO-211-DG; ComponentLink1Description: Manufacturer URL; ComponentLink1URL: http://www.national.com/; ComponentLink2Description: LM49150 Datasheet; ComponentLink2URL: http://www.national.com/ds/LM/LM49150.pdf; ComponentLink3Description: LM49150 Web Page; ComponentLink3URL: http://www.national.com/pf/LM/LM49150.html; ComponentLink4Description: TLA20KGA Package Page; ComponentLink4URL: http://www.national.com/packaging/folders/tla20kga.html
footprint TLA20KGA (Micro SMD, 20-Leads, Body 2.64x2.23mm, Pitch 0.5mm, NSC Recommended)
pins: A1 I2CVDD (power), A2 GND (power), A3 LSOUT- (out), A4 LSOUT+ (out), B1 VDD (power), B2 SDA (in), B3 SCL (in), B4 LSVDD (power), C1 INL (in), C2 INR (in), C3 BYPASS, C4 CPVSS (power), D1 INM- (in), D2 VO(LDO) (out), D3 CPN, D4 CPP, E1 INM+ (in), E2 HPR (out), E3 HPL (out), E4 CPGND (power)

## LM49150TL/NOPB
designator U?
Mono Class D Audio Subsystem with Earpiece Driver and Stereo Ground Referenced Headphone Amplifiers, 20-pin Micro SMD, Pb-Free; PartNumber: LM49150TL/NOPB; Manufacturer: National Semiconductor; PackageTopMarking: XYTT*I GK7; PowerWise: N; CompType: Audio IC; High-Reliability: Y; DatasheetVersion: Mar-2009; PackageVersion: revC, Jan-2004; PackageReference: TLA20KGA; PackageDescription: Thin Micro SMD, 20 Bump (Large), 0.5mm Pitch; RoHS: Y; PinCount: 20; Code_JEDEC: MO-211-DG; ComponentLink1Description: Manufacturer URL; ComponentLink1URL: http://www.national.com/; ComponentLink2Description: LM49150 Datasheet; ComponentLink2URL: http://www.national.com/ds/LM/LM49150.pdf; ComponentLink3Description: LM49150 Web Page; ComponentLink3URL: http://www.national.com/pf/LM/LM49150.html; ComponentLink4Description: TLA20KGA Package Page; ComponentLink4URL: http://www.national.com/packaging/folders/tla20kga.html
footprint TLA20KGA (Micro SMD, 20-Leads, Body 2.64x2.23mm, Pitch 0.5mm, NSC Recommended)
pins: A1 I2CVDD (power), A2 GND (power), A3 LSOUT- (out), A4 LSOUT+ (out), B1 VDD (power), B2 SDA (in), B3 SCL (in), B4 LSVDD (power), C1 INL (in), C2 INR (in), C3 BYPASS, C4 CPVSS (power), D1 INM- (in), D2 VO(LDO) (out), D3 CPN, D4 CPP, E1 INM+ (in), E2 HPR (out), E3 HPL (out), E4 CPGND (power)

## LM49150TLX/NOPB
designator U?
Mono Class D Audio Subsystem with Earpiece Driver and Stereo Ground Referenced Headphone Amplifiers, 20-pin Micro SMD, Pb-Free; PartNumber: LM49150TLX/NOPB; Manufacturer: National Semiconductor; PackageTopMarking: XYTT*I GK7; PowerWise: N; CompType: Audio IC; High-Reliability: Y; DatasheetVersion: Mar-2009; PackageVersion: revC, Jan-2004; PackageReference: TLA20KGA; PackageDescription: Thin Micro SMD, 20 Bump (Large), 0.5mm Pitch; RoHS: Y; PinCount: 20; Code_JEDEC: MO-211-DG; ComponentLink1Description: Manufacturer URL; ComponentLink1URL: http://www.national.com/; ComponentLink2Description: LM49150 Datasheet; ComponentLink2URL: http://www.national.com/ds/LM/LM49150.pdf; ComponentLink3Description: LM49150 Web Page; ComponentLink3URL: http://www.national.com/pf/LM/LM49150.html; ComponentLink4Description: TLA20KGA Package Page; ComponentLink4URL: http://www.national.com/packaging/folders/tla20kga.html
footprint TLA20KGA (Micro SMD, 20-Leads, Body 2.64x2.23mm, Pitch 0.5mm, NSC Recommended)
pins: A1 I2CVDD (power), A2 GND (power), A3 LSOUT- (out), A4 LSOUT+ (out), B1 VDD (power), B2 SDA (in), B3 SCL (in), B4 LSVDD (power), C1 INL (in), C2 INR (in), C3 BYPASS, C4 CPVSS (power), D1 INM- (in), D2 VO(LDO) (out), D3 CPN, D4 CPP, E1 INM+ (in), E2 HPR (out), E3 HPL (out), E4 CPGND (power)

## LM49151TL/NOPB
designator U?
Mono Class D Audio Subsystem with Earpiece Driver, Ground Referenced Headphone Amplifiers, Speaker Protection and No Clip with Clip Control, 20-pin Micro SMD, Pb-Free; PartNumber: LM49151TL/NOPB; Manufacturer: National Semiconductor; PackageTopMarking: XYTT*I GL7; PowerWise: Y; CompType: Audio IC; DatasheetVersion: Apr-2009; PackageVersion: revC, Jan-2004; PackageReference: TLA20GDA; PackageDescription: Thin Micro SMD, 20 Bump (Large), 0.5mm Pitch; RoHS: Y; PinCount: 20; High-Reliability: Y; Code_JEDEC: MO-211-DG; ComponentLink1Description: Manufacturer URL; ComponentLink1URL: http://www.national.com/; ComponentLink2Description: LM49151 Datasheet; ComponentLink2URL: http://www.national.com/ds/LM/LM49151.pdf; ComponentLink3Description: LM49151 Web Page; ComponentLink3URL: http://www.national.com/pf/LM/LM49151.html; ComponentLink4Description: TLA20GDA Package Page; ComponentLink4URL: http://www.national.com/packaging/folders/tla20gda.html
footprint TLA20GDA (Micro SMD, 20-Leads, Body 2.57x2.15mm, Pitch 0.5mm, NSC Recommended)
pins: A1 I2CVDD (power), A2 GND (power), A3 LSOUT- (out), A4 LSOUT+ (out), B1 VDD (power), B2 SDA (in), B3 SCL (in), B4 LSVDD (power), C1 INL (in), C2 INR (in), C3 BYPASS, C4 CPVSS (power), D1 INM- (in), D2 SET, D3 CPN, D4 CPP, E1 INM+ (in), E2 HPR (out), E3 HPL (out), E4 CPGND (power)

## LM49151TLX/NOPB
designator U?
Mono Class D Audio Subsystem with Earpiece Driver, Ground Referenced Headphone Amplifiers, Speaker Protection and No Clip with Clip Control, 20-pin Micro SMD, Pb-Free; PartNumber: LM49151TLX/NOPB; Manufacturer: National Semiconductor; PackageTopMarking: XYTT*I GL7; PowerWise: Y; CompType: Audio IC; DatasheetVersion: Apr-2009; PackageVersion: revC, Jan-2004; PackageReference: TLA20GDA; PackageDescription: Thin Micro SMD, 20 Bump (Large), 0.5mm Pitch; RoHS: Y; PinCount: 20; High-Reliability: Y; Code_JEDEC: MO-211-DG; ComponentLink1Description: Manufacturer URL; ComponentLink1URL: http://www.national.com/; ComponentLink2Description: LM49151 Datasheet; ComponentLink2URL: http://www.national.com/ds/LM/LM49151.pdf; ComponentLink3Description: LM49151 Web Page; ComponentLink3URL: http://www.national.com/pf/LM/LM49151.html; ComponentLink4Description: TLA20GDA Package Page; ComponentLink4URL: http://www.national.com/packaging/folders/tla20gda.html
footprint TLA20GDA (Micro SMD, 20-Leads, Body 2.57x2.15mm, Pitch 0.5mm, NSC Recommended)
pins: A1 I2CVDD (power), A2 GND (power), A3 LSOUT- (out), A4 LSOUT+ (out), B1 VDD (power), B2 SDA (in), B3 SCL (in), B4 LSVDD (power), C1 INL (in), C2 INR (in), C3 BYPASS, C4 CPVSS (power), D1 INM- (in), D2 SET, D3 CPN, D4 CPP, E1 INM+ (in), E2 HPR (out), E3 HPL (out), E4 CPGND (power)

## LM49153TME/NOPB
designator U?
Mono Audio Subsystem with Class G Headphone Amplifier, Class D Speaker Amplifier, Noise Gate and Speaker Protection, 25-pin Micro SMD, 250 Reel; PartNumber: LM49153TME/NOPB; Manufacturer: National Semiconductor; PackageTopMarking: XYTT*I GO1; PowerWise: Y; CompType: Audio IC; DatasheetVersion: Apr-2011; PackageVersion: revC, Apr-2011; PackageReference: TMD25MSA; PackageDescription: Thin Micro SMD, 25 Bump, 0.4 mm Pitch; RoHS: Y; PinCount: 25; High-Reliability: Y; ComponentLink1Description: Manufacturer URL; ComponentLink1URL: http://www.national.com/; ComponentLink2Description: LM49153 Datasheet; ComponentLink2URL: http://www.national.com/ds/LM/LM49153.pdf; ComponentLink3Description: LM49153 Web Page; ComponentLink3URL: http://www.national.com/pf/LM/LM49153.html; ComponentLink4Description: TMD25MSA Package Page; ComponentLink4URL: http://www.national.com/packaging/folders/tmd25msa.html
footprint TMD25MSA (Micro SMD, 25-Leads, Body 2.42x2.3mm, Pitch 0.4mm, NSC Recommended)
pins: A1 HPVDD (power) "Headphone Power Supply", A2 C1P "Charge Pump Flying Capacitor Positive Terminal", A3 CPGND (power) "Charge Pump Ground", A4 LSOUT- (out) "Loudspeaker Inverting Output", A5 LSOUT+ (out) "Loudspeaker Non-Inverting Output", B1 CPVSS (out) "Charge Pump Output", B2 C1N "Charge Pump Flying Capacitor Negative Terminal", B3 SCL (in) "I2C Serial Clock Input", B4 SET "ALC Timing Set", B5 LSVDD (power) "Loudspeaker Power Supply", C1 CPVDD (power) "Charge Pump Power Supply", C2 SDA (in) "I2C Serial Data Input", C3 INL2 (in) "Left Channel Input 2", C4 EP+ (in) "Earpiece Non-Inverting Input", C5 EPOUT+ (out) "Earpiece Non-Inverting Output", D1 HPR (out) "Right Channel Headphone Output", D2 BYPASS "Mid-Rail Bias Bypass Node", D3 INR2 (in) "Right Channel Input 2", D4 EP- (in) "Earpiece Inverting Input", D5 EPOUT- (out) "Earpiece Inverting Output", E1 HPL (out) "Left Channel Headphone Output", E2 GND (power) "Ground", E3 VDD (power) "Power Supply", E4 INM-/INR1 (in) "Mono Channel Inverting Input/Right Channel Input 1", E5 INM+/INL1 (in) "Mono Channel Non-Inverting Input/Left Channel Input 1"

## LM49153TMX/NOPB
designator U?
Mono Audio Subsystem with Class G Headphone Amplifier, Class D Speaker Amplifier, Noise Gate and Speaker Protection, 25-pin Micro SMD, 3000 Reel; PartNumber: LM49153TMX/NOPB; Manufacturer: National Semiconductor; PackageTopMarking: XYTT*I GO1; PowerWise: Y; CompType: Audio IC; DatasheetVersion: Apr-2011; PackageVersion: revC, Apr-2011; PackageReference: TMD25MSA; PackageDescription: Thin Micro SMD, 25 Bump, 0.4 mm Pitch; RoHS: Y; PinCount: 25; High-Reliability: Y; ComponentLink1Description: Manufacturer URL; ComponentLink1URL: http://www.national.com/; ComponentLink2Description: LM49153 Datasheet; ComponentLink2URL: http://www.national.com/ds/LM/LM49153.pdf; ComponentLink3Description: LM49153 Web Page; ComponentLink3URL: http://www.national.com/pf/LM/LM49153.html; ComponentLink4Description: TMD25MSA Package Page; ComponentLink4URL: http://www.national.com/packaging/folders/tmd25msa.html
footprint TMD25MSA (Micro SMD, 25-Leads, Body 2.42x2.3mm, Pitch 0.4mm, NSC Recommended)
pins: A1 HPVDD (power) "Headphone Power Supply", A2 C1P "Charge Pump Flying Capacitor Positive Terminal", A3 CPGND (power) "Charge Pump Ground", A4 LSOUT- (out) "Loudspeaker Inverting Output", A5 LSOUT+ (out) "Loudspeaker Non-Inverting Output", B1 CPVSS (out) "Charge Pump Output", B2 C1N "Charge Pump Flying Capacitor Negative Terminal", B3 SCL (in) "I2C Serial Clock Input", B4 SET "ALC Timing Set", B5 LSVDD (power) "Loudspeaker Power Supply", C1 CPVDD (power) "Charge Pump Power Supply", C2 SDA (in) "I2C Serial Data Input", C3 INL2 (in) "Left Channel Input 2", C4 EP+ (in) "Earpiece Non-Inverting Input", C5 EPOUT+ (out) "Earpiece Non-Inverting Output", D1 HPR (out) "Right Channel Headphone Output", D2 BYPASS "Mid-Rail Bias Bypass Node", D3 INR2 (in) "Right Channel Input 2", D4 EP- (in) "Earpiece Inverting Input", D5 EPOUT- (out) "Earpiece Inverting Output", E1 HPL (out) "Left Channel Headphone Output", E2 GND (power) "Ground", E3 VDD (power) "Power Supply", E4 INM-/INR1 (in) "Mono Channel Inverting Input/Right Channel Input 1", E5 INM+/INL1 (in) "Mono Channel Non-Inverting Input/Left Channel Input 1"

## LM49200TL/NOPB
designator U?
Stereo Class AB Audio Subsystem with a True Ground Headphone Amplifier, 20-pin Micro SMD, Pb-Free; PartNumber: LM49200TL/NOPB; Manufacturer: National Semiconductor; PackageTopMarking: XYTT*I GL3; PowerWise: N; CompType: Audio IC; High-Reliability: Y; DatasheetVersion: May-2009; PackageVersion: revC, Jan-2004; PackageReference: TLA20BBA; PackageDescription: Thin Micro SMD, 20 Bump (Large), 0.5mm Pitch; RoHS: Y; PinCount: 20; Code_JEDEC: MO-211-DG; ComponentLink1Description: Manufacturer URL; ComponentLink1URL: http://www.national.com/; ComponentLink2Description: LM49200 Datasheet; ComponentLink2URL: http://www.national.com/ds/LM/LM49200.pdf; ComponentLink3Description: LM49200 Web Page; ComponentLink3URL: http://www.national.com/pf/LM/LM49200.html; ComponentLink4Description: TLA20BBA Package Page; ComponentLink4URL: http://www.national.com/packaging/folders/tla20bba.html
footprint TLA20BBA (Micro SMD, 20-Leads, Body 2.52x2.02mm, Pitch 0.5mm, NSC Recommended)
pins: A1 ROUT- (out), A2 VDD (power), A3 MIN+ (in), A4 MIN- (in), B1 ROUT+ (out), B2 I2CVDD (power), B3 LIN (in), B4 RIN (in), C1 GND (power), C2 SCL (in), C3 BIAS, C4 VSSCP (power), D1 LOUT+ (out), D2 SDA (in), D3 CIN, D4 CIP, E1 LOUT- (out), E2 HPR (out), E3 HPL (out), E4 CPGND (power)

## LM49200TLX/NOPB
designator U?
Stereo Class AB Audio Subsystem with a True Ground Headphone Amplifier, 20-pin Micro SMD, Pb-Free; PartNumber: LM49200TLX/NOPB; Manufacturer: National Semiconductor; PackageTopMarking: XYTT*I GL3; PowerWise: N; CompType: Audio IC; High-Reliability: Y; DatasheetVersion: May-2009; PackageVersion: revC, Jan-2004; PackageReference: TLA20BBA; PackageDescription: Thin Micro SMD, 20 Bump (Large), 0.5mm Pitch; RoHS: Y; PinCount: 20; Code_JEDEC: MO-211-DG; ComponentLink1Description: Manufacturer URL; ComponentLink1URL: http://www.national.com/; ComponentLink2Description: LM49200 Datasheet; ComponentLink2URL: http://www.national.com/ds/LM/LM49200.pdf; ComponentLink3Description: LM49200 Web Page; ComponentLink3URL: http://www.national.com/pf/LM/LM49200.html; ComponentLink4Description: TLA20BBA Package Page; ComponentLink4URL: http://www.national.com/packaging/folders/tla20bba.html
footprint TLA20BBA (Micro SMD, 20-Leads, Body 2.52x2.02mm, Pitch 0.5mm, NSC Recommended)
pins: A1 ROUT- (out), A2 VDD (power), A3 MIN+ (in), A4 MIN- (in), B1 ROUT+ (out), B2 I2CVDD (power), B3 LIN (in), B4 RIN (in), C1 GND (power), C2 SCL (in), C3 BIAS, C4 VSSCP (power), D1 LOUT+ (out), D2 SDA (in), D3 CIN, D4 CIP, E1 LOUT- (out), E2 HPR (out), E3 HPL (out), E4 CPGND (power)

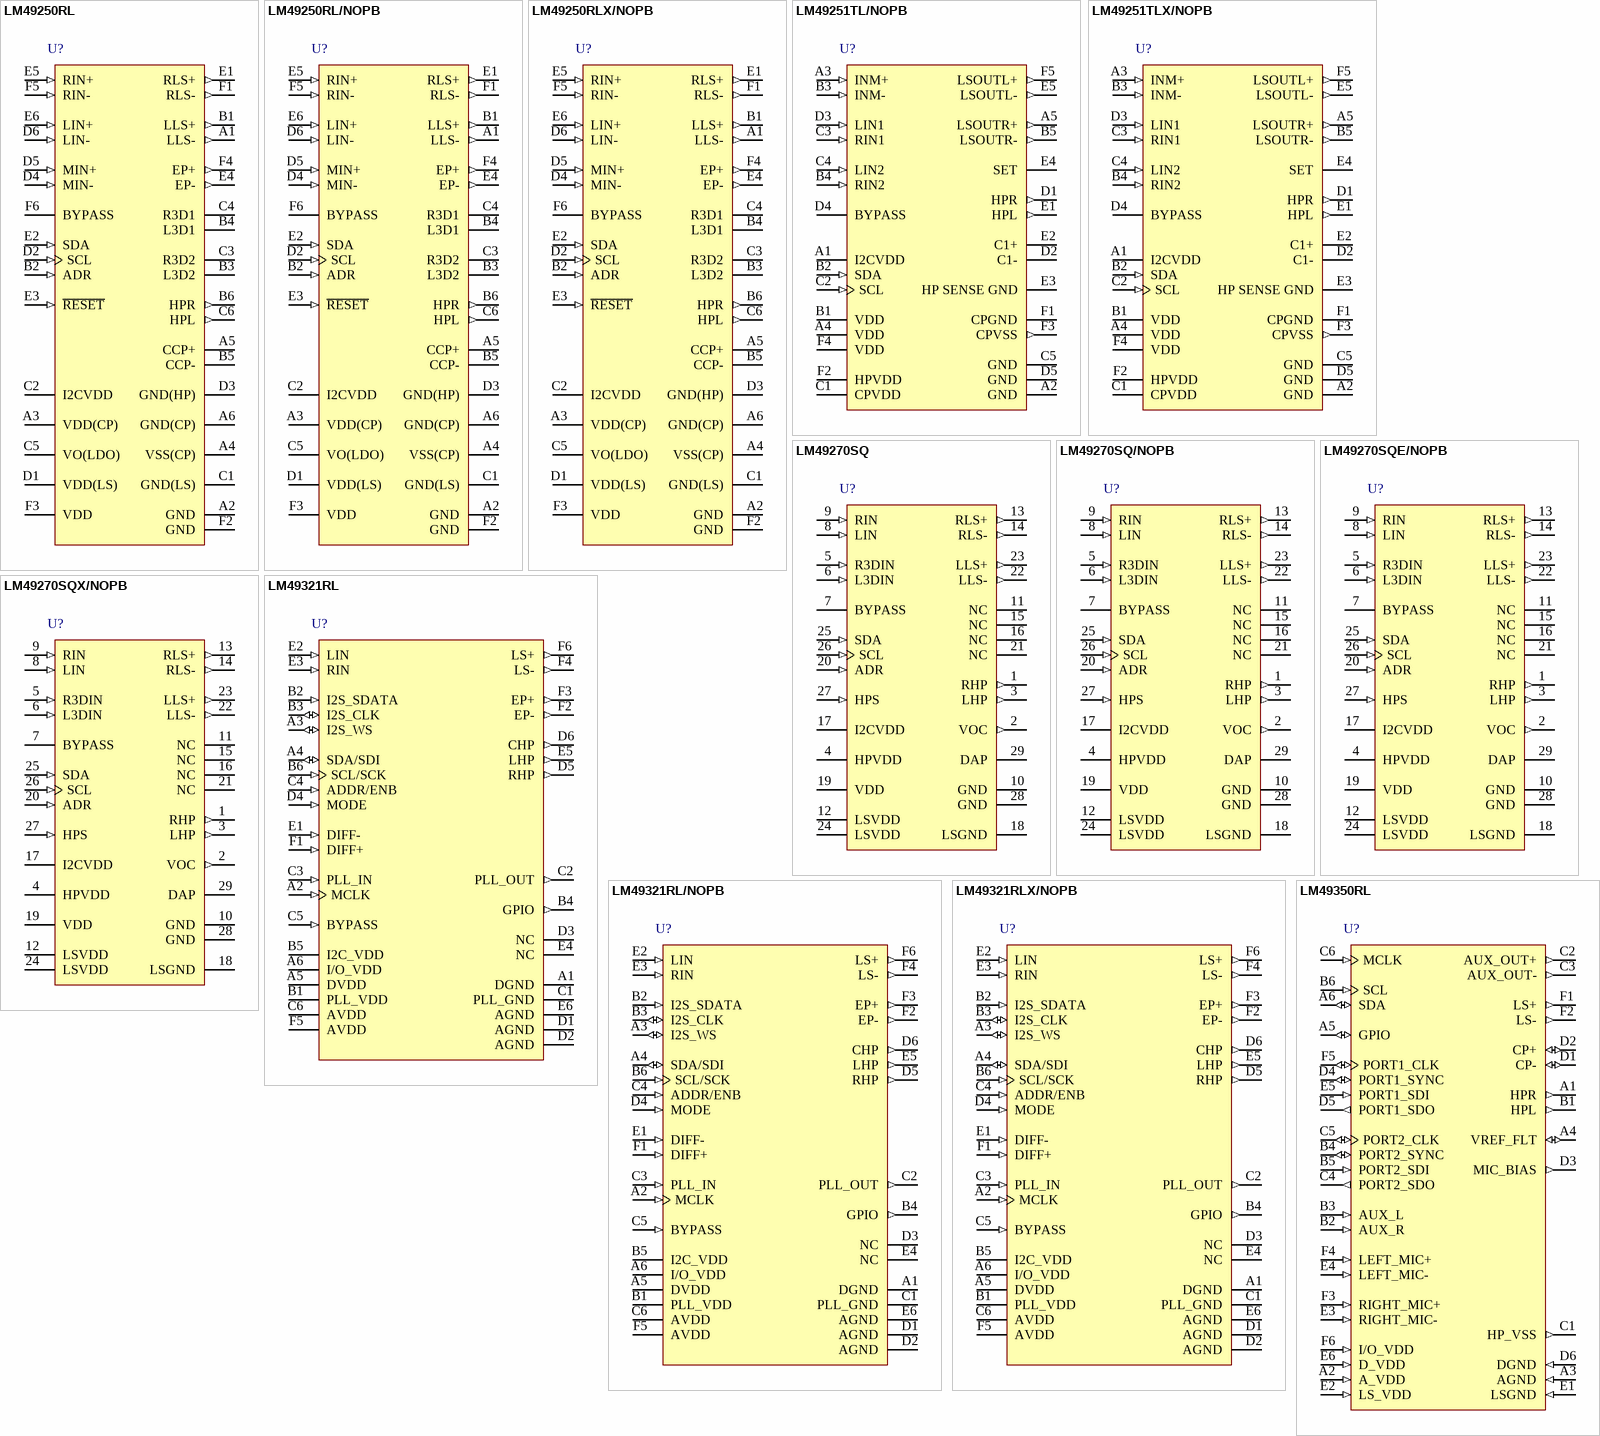
[diagram p21: symbols LM49250RL to LM49350RL]

## LM49250RL
designator U?
Enhanced Emissions Suppression Stereo Class D Audio Sub-System with Ground Referenced Headphone Amplifier, 36-pin Micro SMDXT; PartNumber: LM49250RL; Manufacturer: National Semiconductor; PackageTopMarking: XYTT*I GJ1; PowerWise: Y; CompType: Audio IC; DatasheetVersion: Dec-2008; PackageVersion: revA, 2008; PackageReference: RLA36CCA; PackageDescription: Micro SMDxt, 36 Bump (Large), 0.5mm Pitch; RoHS: Y; PinCount: 36; High-Reliability: Y; ComponentLink1Description: Manufacturer URL; ComponentLink1URL: http://www.national.com/; ComponentLink2Description: LM49250 Datasheet; ComponentLink2URL: http://www.national.com/ds/LM/LM49250.pdf; ComponentLink3Description: LM49250 Web Page; ComponentLink3URL: http://www.national.com/pf/LM/LM49250.html; ComponentLink4Description: RLA36CCA Package Page; ComponentLink4URL: http://www.national.com/packaging/folders/rla36cca.html
footprint RLA36CCA (Micro SMD, 36-Leads, Body 3.05x3.05mm, Pitch 0.5mm, NSC Recommended)
pins: A1 LLS- (out), A2 GND (power), A3 VDD(CP) (power), A4 VSS(CP) (power), A5 CCP+, A6 GND(CP) (power), B1 LLS+ (out), B2 ADR (in), B3 L3D2, B4 L3D1, B5 CCP-, B6 HPR (out), C1 GND(LS) (power), C2 I2CVDD (power), C3 R3D2, C4 R3D1, C5 VO(LDO) (power), C6 HPL (out), D1 VDD(LS) (power), D2 SCL (in), D3 GND(HP) (power), D4 MIN- (in), D5 MIN+ (in), D6 LIN- (in), E1 RLS+ (out), E2 SDA (in), E3 ~{RESET} (in), E4 EP- (out), E5 RIN+ (in), E6 LIN+ (in), F1 RLS- (out), F2 GND (power), F3 VDD (power), F4 EP+ (out), F5 RIN- (in), F6 BYPASS

## LM49250RL/NOPB
designator U?
Enhanced Emissions Suppression Stereo Class D Audio Sub-System with Ground Referenced Headphone Amplifier, 36-pin Micro SMDXT, Pb-Free; PartNumber: LM49250RL/NOPB; Manufacturer: National Semiconductor; PackageTopMarking: XYTT*I GJ1; PowerWise: Y; CompType: Audio IC; DatasheetVersion: Dec-2008; PackageVersion: revA, 2008; PackageReference: RLA36CCA; PackageDescription: Micro SMDxt, 36 Bump (Large), 0.5mm Pitch; RoHS: Y; PinCount: 36; High-Reliability: Y; ComponentLink1Description: Manufacturer URL; ComponentLink1URL: http://www.national.com/; ComponentLink2Description: LM49250 Datasheet; ComponentLink2URL: http://www.national.com/ds/LM/LM49250.pdf; ComponentLink3Description: LM49250 Web Page; ComponentLink3URL: http://www.national.com/pf/LM/LM49250.html; ComponentLink4Description: RLA36CCA Package Page; ComponentLink4URL: http://www.national.com/packaging/folders/rla36cca.html
footprint RLA36CCA (Micro SMD, 36-Leads, Body 3.05x3.05mm, Pitch 0.5mm, NSC Recommended)
pins: A1 LLS- (out), A2 GND (power), A3 VDD(CP) (power), A4 VSS(CP) (power), A5 CCP+, A6 GND(CP) (power), B1 LLS+ (out), B2 ADR (in), B3 L3D2, B4 L3D1, B5 CCP-, B6 HPR (out), C1 GND(LS) (power), C2 I2CVDD (power), C3 R3D2, C4 R3D1, C5 VO(LDO) (power), C6 HPL (out), D1 VDD(LS) (power), D2 SCL (in), D3 GND(HP) (power), D4 MIN- (in), D5 MIN+ (in), D6 LIN- (in), E1 RLS+ (out), E2 SDA (in), E3 ~{RESET} (in), E4 EP- (out), E5 RIN+ (in), E6 LIN+ (in), F1 RLS- (out), F2 GND (power), F3 VDD (power), F4 EP+ (out), F5 RIN- (in), F6 BYPASS

## LM49250RLX/NOPB
designator U?
Enhanced Emissions Suppression Stereo Class D Audio Sub-System with Ground Referenced Headphone Amplifier, 36-pin Micro SMDXT, Pb-Free; PartNumber: LM49250RLX/NOPB; Manufacturer: National Semiconductor; PackageTopMarking: XYTT*I GJ1; PowerWise: Y; CompType: Audio IC; DatasheetVersion: Dec-2008; PackageVersion: revA, 2008; PackageReference: RLA36CCA; PackageDescription: Micro SMDxt, 36 Bump (Large), 0.5mm Pitch; RoHS: Y; PinCount: 36; High-Reliability: Y; ComponentLink1Description: Manufacturer URL; ComponentLink1URL: http://www.national.com/; ComponentLink2Description: LM49250 Datasheet; ComponentLink2URL: http://www.national.com/ds/LM/LM49250.pdf; ComponentLink3Description: LM49250 Web Page; ComponentLink3URL: http://www.national.com/pf/LM/LM49250.html; ComponentLink4Description: RLA36CCA Package Page; ComponentLink4URL: http://www.national.com/packaging/folders/rla36cca.html
footprint RLA36CCA (Micro SMD, 36-Leads, Body 3.05x3.05mm, Pitch 0.5mm, NSC Recommended)
pins: A1 LLS- (out), A2 GND (power), A3 VDD(CP) (power), A4 VSS(CP) (power), A5 CCP+, A6 GND(CP) (power), B1 LLS+ (out), B2 ADR (in), B3 L3D2, B4 L3D1, B5 CCP-, B6 HPR (out), C1 GND(LS) (power), C2 I2CVDD (power), C3 R3D2, C4 R3D1, C5 VO(LDO) (power), C6 HPL (out), D1 VDD(LS) (power), D2 SCL (in), D3 GND(HP) (power), D4 MIN- (in), D5 MIN+ (in), D6 LIN- (in), E1 RLS+ (out), E2 SDA (in), E3 ~{RESET} (in), E4 EP- (out), E5 RIN+ (in), E6 LIN+ (in), F1 RLS- (out), F2 GND (power), F3 VDD (power), F4 EP+ (out), F5 RIN- (in), F6 BYPASS